# Altium footprint library KC3225L-L3_FOOTPRINT.PcbLib: 1 footprints
Each footprint in its own frame and in the unit in brackets; x right, y up, seen from the top. Pads: shape width x height; smd on the part's side, far side on the other; paste and mask are expansions set on the pad; w line width, h text height; cw(c..) or ccw(c..) is an arc to the next point about the centre after c.
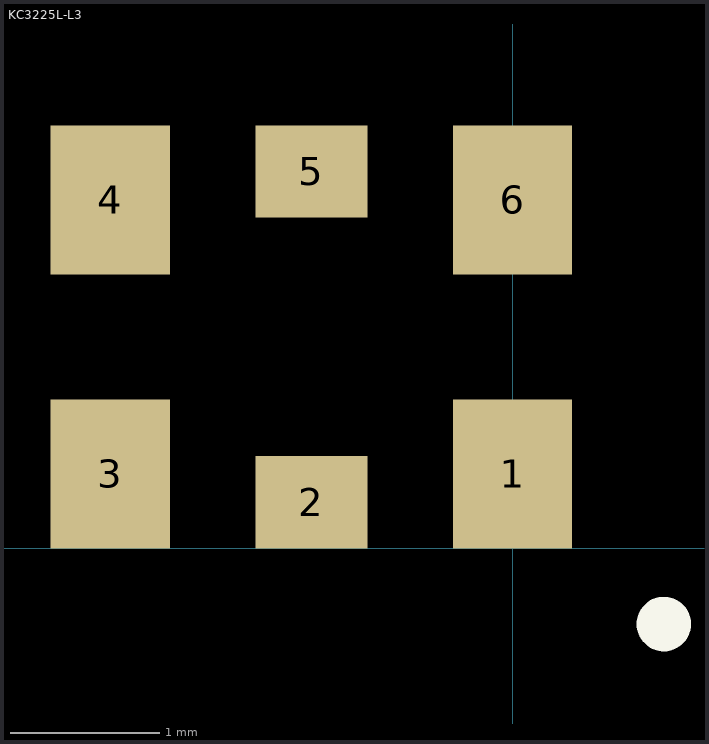
[diagram p0: the footprint, top view; thin cyan lines are the x and y axes]

## KC3225L-L3 [mm] "Clock KC3225L-L3's Footprint"
pads (6):
  rect 0.8x1 smd: 1(0,0.5) 3(-2.7,0.5) 4(-2.7,2.34) 6(0,2.34)
  rect 0.75x0.62 smd: 2(-1.35,0.31) 5(-1.35,2.53)
Top Overlay:
  circle w0.254: c1.016,-0.508 r0.056